# Altium footprint library sanziqi.PcbLib: 62 footprints (part 3 of 4)
Each footprint in its own frame and in the unit in brackets; x right, y up, seen from the top. Pads: shape width x height; smd on the part's side, far side on the other; paste and mask are expansions set on the pad; w line width, h text height; cw(c..) or ccw(c..) is an arc to the next point about the centre after c.
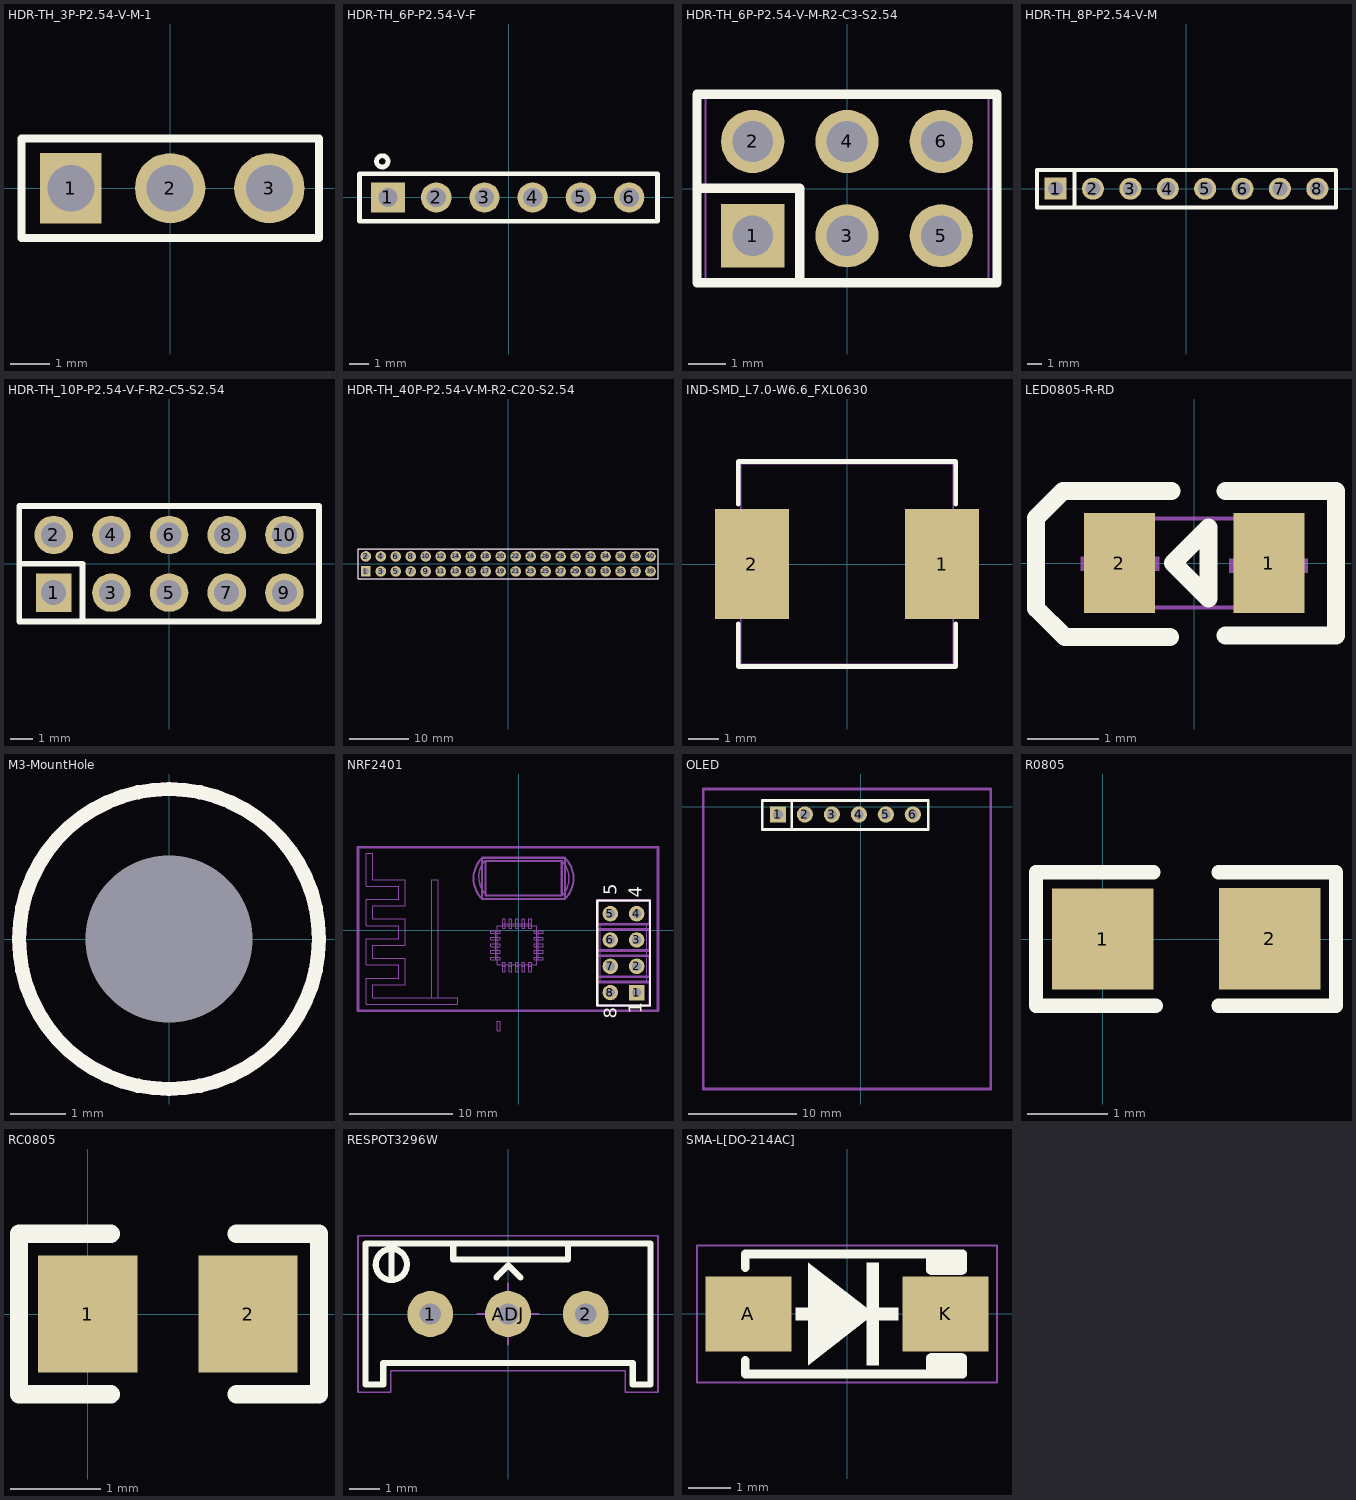
[diagram p2: the footprints below, top view; thin cyan lines are the x and y axes]

## HDR-TH_3P-P2.54-V-M-1 [mm]
pads (3):
  rect 1.575x1.8 hole 1.2: 1(-2.54,0)
  round 1.8 hole 1.2: 2(0,0) 3(2.54,0)
Top Overlay:
  lines w0.203: -3.81,-1.27 3.81,-1.27 3.81,1.27 -1.905,1.27 -3.81,1.27 -3.81,-1.27
Mechanical 15:
  region: -2.86,0.32 -2.22,0.32 -2.22,-0.32 -2.86,-0.32
  region: -0.32,0.32 0.32,0.32 0.32,-0.32 -0.32,-0.32
  region: 2.22,0.32 2.86,0.32 2.86,-0.32 2.22,-0.32
  region: -3.75,-1.25 -3.75,-1.225 -3.785,-1.19 -3.835,-1.19 -3.87,-1.225 -3.87,-1.25 -3.87,-1.275 -3.835,-1.31 -3.785,-1.31 -3.75,-1.275 -3.75,-1.25
  lines w0.051: -3.81,-1.25 3.81,-1.25 3.81,1.25 -3.81,1.25 -3.81,-1.25

## HDR-TH_6P-P2.54-V-F [mm]
pads (6):
  rect 1.8x1.6 hole 1.02: 1(-6.35,0)
  round 1.6 hole 1.02: 2(-3.81,0) 3(-1.27,0) 4(1.27,0) 5(3.81,0) 6(6.35,0)
Top Overlay:
  circle w0.254: c-6.65,1.9 r0.3
  lines w0.254: -7.85,0.9 -7.85,1.25 7.85,1.25 7.85,-1.25 -7.85,-1.25 -7.85,0.95
Mechanical 15:
  region: 6.03,0.15 6.67,0.15 6.67,-0.15 6.03,-0.15
  region: 3.49,0.15 4.13,0.15 4.13,-0.15 3.49,-0.15
  region: 0.95,0.15 1.59,0.15 1.59,-0.15 0.95,-0.15
  region: -1.59,0.15 -0.95,0.15 -0.95,-0.15 -1.59,-0.15
  region: -4.13,0.15 -3.49,0.15 -3.49,-0.15 -4.13,-0.15
  region: -6.67,0.15 -6.03,0.15 -6.03,-0.15 -6.67,-0.15
  region: -7.81,-1.25 -7.81,-1.225 -7.845,-1.19 -7.895,-1.19 -7.93,-1.225 -7.93,-1.25 -7.93,-1.275 -7.895,-1.31 -7.845,-1.31 -7.81,-1.275 -7.81,-1.25
  lines w0.051: -7.87,-1.25 7.87,-1.25 7.87,1.25 -7.87,1.25 -7.87,-1.25

## HDR-TH_6P-P2.54-V-M-R2-C3-S2.54 [mm]
pads (6):
  rect 1.7x1.7 hole 1.1: 1(-2.54,-1.27)
  round 1.7 hole 1.1: 2(-2.54,1.27) 3(0,-1.27) 4(0,1.27) 5(2.54,-1.27) 6(2.54,1.27)
Top Overlay:
  lines w0.254: -4.04,0.007 -1.27,0.007 -1.27,-2.54 ; -4.04,-2.54 -4.04,2.54 4.04,2.54 4.04,-2.54 -4.04,-2.54
Mechanical 15:
  region: -2.86,-0.95 -2.22,-0.95 -2.22,-1.59 -2.86,-1.59
  region: -2.86,1.59 -2.22,1.59 -2.22,0.95 -2.86,0.95
  region: -0.32,-0.95 0.32,-0.95 0.32,-1.59 -0.32,-1.59
  region: -0.32,1.59 0.32,1.59 0.32,0.95 -0.32,0.95
  region: 2.22,-0.95 2.86,-0.95 2.86,-1.59 2.22,-1.59
  region: 2.22,1.59 2.86,1.59 2.86,0.95 2.22,0.95
  region: -3.75,-2.5 -3.75,-2.475 -3.785,-2.44 -3.835,-2.44 -3.87,-2.475 -3.87,-2.5 -3.87,-2.525 -3.835,-2.56 -3.785,-2.56 -3.75,-2.525 -3.75,-2.5
  lines w0.051: -3.81,-2.5 3.81,-2.5 3.81,2.5 -3.81,2.5 -3.81,-2.5

## HDR-TH_8P-P2.54-V-M [mm]
pads (8):
  rect 1.5x1.5 hole 1: 1(-8.89,0)
  round 1.5 hole 1: 2(-6.35,0) 3(-3.81,0) 4(-1.27,0) 5(1.27,0) 6(3.81,0) 7(6.35,0) 8(8.89,0)
Top Overlay:
  lines w0.254: -7.596,-1.27 -7.596,1.27 ; -10.16,-1.27 -10.16,1.27 10.16,1.27 10.16,-1.27 -10.16,-1.27
Mechanical 15:
  region: 8.57,0.32 9.21,0.32 9.21,-0.32 8.57,-0.32
  region: 6.03,0.32 6.67,0.32 6.67,-0.32 6.03,-0.32
  region: 3.49,0.32 4.13,0.32 4.13,-0.32 3.49,-0.32
  region: 0.95,0.32 1.59,0.32 1.59,-0.32 0.95,-0.32
  region: -1.59,0.32 -0.95,0.32 -0.95,-0.32 -1.59,-0.32
  region: -4.13,0.32 -3.49,0.32 -3.49,-0.32 -4.13,-0.32
  region: -6.67,0.32 -6.03,0.32 -6.03,-0.32 -6.67,-0.32
  region: -9.21,0.32 -8.57,0.32 -8.57,-0.32 -9.21,-0.32
  region: -10.1,-1.25 -10.1,-1.225 -10.135,-1.19 -10.185,-1.19 -10.22,-1.225 -10.22,-1.25 -10.22,-1.275 -10.185,-1.31 -10.135,-1.31 -10.1,-1.275 -10.1,-1.25
  lines w0.051: -10.16,-1.25 10.16,-1.25 10.16,1.25 -10.16,1.25 -10.16,-1.25

## HDR-TH_10P-P2.54-V-F-R2-C5-S2.54 [mm]
pads (10):
  rect 1.575x1.7 hole 1.1 paste+0 mask+0.051: 1(-5.08,-1.27)
  round 1.7 hole 1.1 paste+0 mask+0.051: 2(-5.08,1.27) 3(-2.54,-1.27) 4(-2.54,1.27) 5(0,-1.27) 6(0,1.27) 7(2.54,-1.27) 8(2.54,1.27) 9(5.08,-1.27) 10(5.08,1.27)
Top Overlay:
  lines w0.254: -6.604,-2.54 6.604,-2.54 6.604,2.54 -6.604,2.54 -6.604,-2.54 ; -6.604,-2.54 -3.81,-2.54 -3.81,0 -6.604,0 -6.604,-2.54
Mechanical 15:
  region: -6.49,-2.5 -6.49,-2.475 -6.525,-2.44 -6.575,-2.44 -6.61,-2.475 -6.61,-2.5 -6.61,-2.525 -6.575,-2.56 -6.525,-2.56 -6.49,-2.525 -6.49,-2.5
  region: -5.4,-1.47 -5.4,-1.07 -4.76,-1.07 -4.76,-1.47
  region: -5.4,1.47 -4.76,1.47 -4.76,1.07 -5.4,1.07
  region: -2.86,-1.07 -2.22,-1.07 -2.22,-1.47 -2.86,-1.47
  region: -2.86,1.47 -2.22,1.47 -2.22,1.07 -2.86,1.07
  region: -0.32,-1.07 0.32,-1.07 0.32,-1.47 -0.32,-1.47
  region: -0.32,1.47 0.32,1.47 0.32,1.07 -0.32,1.07
  region: 2.22,-1.07 2.86,-1.07 2.86,-1.47 2.22,-1.47
  region: 2.22,1.47 2.86,1.47 2.86,1.07 2.22,1.07
  region: 4.76,-1.07 5.4,-1.07 5.4,-1.47 4.76,-1.47
  region: 4.76,1.47 5.4,1.47 5.4,1.07 4.76,1.07
  lines w0.051: -6.55,-2.5 -6.55,2.5 6.55,2.5 6.55,-2.5 -6.55,-2.5

## HDR-TH_40P-P2.54-V-M-R2-C20-S2.54 [mm]
pads (40):
  rect 1.575x1.8 hole 1.1: 1(-24.13,-1.27)
  round 1.8 hole 1.1: 2(-24.13,1.27) 3(-21.59,-1.27) 4(-21.59,1.27) 5(-19.05,-1.27) 6(-19.05,1.27) 7(-16.51,-1.27) 8(-16.51,1.27) 9(-13.97,-1.27) 10(-13.97,1.27) 11(-11.43,-1.27) 12(-11.43,1.27) 13(-8.89,-1.27) 14(-8.89,1.27) 15(-6.35,-1.27) 16(-6.35,1.27) 17(-3.81,-1.27) 18(-3.81,1.27) 19(-1.27,-1.27) 20(-1.27,1.27) 21(1.27,-1.27) 22(1.27,1.27) 23(3.81,-1.27) 24(3.81,1.27) 25(6.35,-1.27) 26(6.35,1.27) 27(8.89,-1.27) 28(8.89,1.27) 29(11.43,-1.27) 30(11.43,1.27) 31(13.97,-1.27) 32(13.97,1.27) 33(16.51,-1.27) 34(16.51,1.27) 35(19.05,-1.27) 36(19.05,1.27) 37(21.59,-1.27) 38(21.59,1.27) 39(24.13,-1.27) 40(24.13,1.27)
Top Overlay:
  lines w0.203: -25.4,-2.54 -25.4,2.54 25.4,2.54 25.4,-2.54 -25.4,-2.54
Mechanical 15:
  drawing of 45 lines, arcs and shapes, not listed

## IND-SMD_L7.0-W6.6_FXL0630 [mm]
pads (2):
  rect 2.424x3.62 smd: 1(3.128,0) 2(-3.128,0)
Top Overlay:
  lines w0.152: -3.576,-1.962 -3.576,-3.376 3.576,-3.376 3.576,-1.962 ; -3.576,1.962 -3.576,3.376 3.576,3.376 3.576,1.962
Mechanical 15:
  region: 3.56,3.3 3.56,3.325 3.525,3.359 3.475,3.359 3.44,3.325 3.44,3.3 3.44,3.275 3.475,3.241 3.525,3.241 3.56,3.275 3.56,3.3
  region: -3.5,-1.6 -3.5,1.6 -2,1.6 -2,-1.6
  region: 3.5,-1.6 3.5,1.6 2,1.6 2,-1.6
  lines w0.051: -3.5,-3.3 -3.5,3.3 3.5,3.3 3.5,-3.3 -3.5,-3.3

## LED0805-R-RD [mm]
pads (2):
  rect 1x1.4 smd: 1(1.05,0) 2(-1.05,0)
Top Overlay:
  lines w0.254: -0.344,-1.043 -1.817,-1.043 -2.224,-0.636 -2.224,0.634 -1.843,1.015 -0.319,1.015 ; 0.443,-1.017 1.993,-1.017 1.993,1.015 0.443,1.015 ; -0.3,0 -0.2,0.1 0.2,0.5 0.2,-0.5 -0.2,-0.1 -0.3,0
Mechanical 6:
  region: 0.941,-0.556 0.941,0.544 1.141,0.544 1.141,-0.556
  region: 0.494,0.06 1.594,0.06 1.594,-0.14 0.494,-0.14
  region: -0.494,-0.109 -1.594,-0.109 -1.594,0.091 -0.494,0.091
Mechanical 15:
  region: 1.06,0.625 1.059,0.65 1.024,0.684 0.976,0.684 0.941,0.65 0.94,0.625 0.941,0.601 0.976,0.566 1.024,0.566 1.059,0.601 1.06,0.625
  region: 1,-0.625 0.6,-0.625 0.6,0.625 1,0.625
  region: -0.6,-0.625 -1,-0.625 -1,0.625 -0.6,0.625
  lines w0.051: -1,-0.625 -1,0.625 1,0.625 1,-0.625 -1,-0.625

## M3-MountHole [mm]
height 2
pads (1):
  rect 0x0 hole 3 unplated: 1(0,0)
Top Overlay:
  circle w0.254: c0,0 r2.7
Bottom Overlay:
  circle w0.254: c0,0 r2.7
Keep-Out Layer:
  circle w0.254: c0,0 r2.7

## NRF2401 [mm]
pads (8):
  rect 1.5x1.5 hole 0.9: 1(11.379,-6.02)
  round 1.5 hole 0.9: 2(11.379,-3.48) 3(11.379,-0.94) 4(11.379,1.6) 5(8.839,1.6) 6(8.839,-0.94) 7(8.839,-3.48) 8(8.839,-6.02)
Top Overlay:
  lines w0.2: 7.569,-7.29 12.649,-7.29 12.649,2.87 7.569,2.87 7.569,-7.29
  text "8" at 9.474,-8.56 h1.27
  text "4" at 11.887,3.124 h1.27
  text "1" at 11.887,-8.052 h1.27
  text "5" at 9.474,3.378 h1.27
Mechanical 1:
  drawing of 171 lines, arcs and shapes, not listed
3D body: height 3.01, standoff 3, extent -8.433,-6.528 -7.798,4.902
3D body: height 3.01, standoff 3, extent -14.783,-7.163 -5.893,7.442
3D body: height 3.25, standoff 3, extent -2.238,-0.305 -1.829,-0.051
3D body: height 3.25, standoff 3, extent -2.238,-0.94 -1.829,-0.686
3D body: height 3.25, standoff 3, extent -2.238,-1.575 -1.829,-1.321
3D body: height 3.25, standoff 3, extent -2.238,-2.21 -1.829,-1.956
3D body: height 3.25, standoff 3, extent -2.248,-2.845 -1.829,-2.591
3D body: height 3.25, standoff 3, extent -1.575,-3.48 -1.321,-3.099
3D body: height 3.25, standoff 3, extent -0.94,-3.498 -0.686,-3.099
3D body: height 3.25, standoff 3, extent -0.305,-3.498 -0.051,-3.099
3D body: height 3.25, standoff 3, extent 0.33,-3.498 0.584,-3.099
3D body: height 3.25, standoff 3, extent 0.965,-3.498 1.219,-3.099
3D body: height 3.25, standoff 3, extent 1.473,-2.845 1.882,-2.591
3D body: height 3.25, standoff 3, extent 1.473,-2.21 1.882,-1.956
3D body: height 3.25, standoff 3, extent 1.473,-1.588 1.882,-1.321
3D body: height 3.25, standoff 3, extent 1.473,-0.94 1.882,-0.686
3D body: height 3.25, standoff 3, extent 1.473,-0.305 1.892,-0.051
3D body: height 3.25, standoff 3, extent 0.965,0.203 1.219,0.612
3D body: height 3.25, standoff 3, extent 0.33,0.203 0.584,0.612
3D body: height 3.25, standoff 3, extent -0.305,0.203 -0.051,0.612
3D body: height 3.25, standoff 3, extent -0.94,0.203 -0.686,0.612
3D body: height 3.25, standoff 3, extent -1.575,0.203 -1.321,0.612
3D body: height 3.1, standoff 3, extent -2.718,-2.845 -2.248,-2.591
3D body: height 3.1, standoff 3, extent -2.718,-2.21 -2.248,-1.956
3D body: height 3.1, standoff 3, extent -2.718,-1.575 -2.238,-1.321
3D body: height 3.1, standoff 3, extent -2.718,-0.94 -2.248,-0.686
3D body: height 3.1, standoff 3, extent -2.718,-0.318 -2.238,-0.051
3D body: height 3.1, standoff 3, extent -1.575,0.612 -1.321,1.092
3D body: height 3.1, standoff 3, extent -0.94,0.612 -0.686,1.092
3D body: height 3.1, standoff 3, extent -0.305,0.612 -0.051,1.092
3D body: height 3.1, standoff 3, extent 0.33,0.612 0.584,1.092
3D body: height 3.1, standoff 3, extent 0.965,0.612 1.219,1.092
3D body: height 3.1, standoff 3, extent 1.882,-0.305 2.362,-0.051
3D body: height 3.1, standoff 3, extent 1.882,-0.94 2.362,-0.686
3D body: height 3.1, standoff 3, extent 1.882,-1.575 2.362,-1.321
3D body: height 3.1, standoff 3, extent 1.882,-2.21 2.362,-1.956
3D body: height 3.1, standoff 3, extent 1.882,-2.845 2.362,-2.578
3D body: height 3.1, standoff 3, extent 0.965,-3.988 1.219,-3.498
3D body: height 3.1, standoff 3, extent 0.33,-3.988 0.584,-3.498
3D body: height 3.1, standoff 3, extent -0.305,-3.983 -0.051,-3.493
3D body: height 3.1, standoff 3, extent -0.94,-3.988 -0.686,-3.498
3D body: height 3.1, standoff 3, extent -1.575,-3.988 -1.321,-3.48
3D body: height 3.5, standoff 3, extent -2.083,-3.353 1.727,0.457
3D body: height 5, standoff 3.5, extent -3.226,3.378 4.14,6.68
3D body: height 5, standoff 3, extent 1.291,3.44 4.717,6.873
3D body: height 5, standoff 3, extent -4.043,3.313 -0.617,6.746
3D body: height 3.5, standoff 3, extent 1.359,2.917 5.542,7.108
3D body: height 3.5, standoff 3, extent -4.641,2.917 -0.458,7.108
3D body: height 3.5, standoff 3, extent -3.558,3.012 4.442,7.012
3D body: height 4, standoff 0, extent 11.032,1.251 11.729,1.95
3D body: height 4, standoff 0, extent 8.492,1.251 9.189,1.95
3D body: height 4, standoff 0, extent 8.492,-1.289 9.189,-0.59
3D body: height 4, standoff 0, extent 11.032,-1.289 11.729,-0.59
3D body: height 4, standoff 0, extent 11.032,-3.829 11.729,-3.13
3D body: height 4, standoff 0, extent 8.492,-3.829 9.189,-3.13
3D body: height 4, standoff 0, extent 8.492,-6.369 9.189,-5.67
3D body: height 4, standoff 0, extent 11.032,-6.369 11.729,-5.67
3D body: height 4, standoff 0, extent 11.032,-6.369 11.729,-5.67
3D body: height 4, standoff 0, extent 8.492,-6.369 9.189,-5.67
3D body: height 4, standoff 0, extent 11.032,-3.829 11.729,-3.13
3D body: height 4, standoff 0, extent 8.492,-3.829 9.189,-3.13
3D body: height 4, standoff 0, extent 11.032,-1.289 11.729,-0.59
3D body: height 4, standoff 0, extent 8.492,-1.289 9.189,-0.59
3D body: height 4, standoff 0, extent 11.032,1.251 11.729,1.95
3D body: height 4, standoff 0, extent 8.492,1.251 9.189,1.95
3D body: height 3, standoff 2, extent -15.558,-7.788 13.442,8.012
3D body: height 2, standoff 0, extent 7.569,-7.29 12.649,-5.004
3D body: height 2, standoff 0, extent 7.842,-5.004 12.342,-4.496
3D body: height 2, standoff 0, extent 7.569,-4.496 12.649,-2.464
3D body: height 2, standoff 0, extent 7.842,-2.488 12.342,-1.956
3D body: height 2, standoff 0, extent 7.569,-1.956 12.649,0.076
3D body: height 2, standoff 0, extent 7.842,0.076 12.342,0.584
3D body: height 2, standoff 0, extent 7.569,0.584 12.649,2.87

## OLED [mm]
pads (6):
  rect 1.5x1.5 hole 0.9: 1(-7.671,-0.711)
  round 1.5 hole 0.9: 2(-5.171,-0.711) 3(-2.671,-0.711) 4(-0.171,-0.711) 5(2.329,-0.711) 6(4.829,-0.711)
Top Overlay:
  lines w0.254: -6.401,-2.057 -6.401,0.533 ; -9.119,-2.108 6.274,-2.108 6.274,0.584 -9.119,0.584 -9.119,-2.108
Mechanical 1:
  lines w0.254: -14.605,-26.162 -14.605,1.651 12.065,1.651 12.065,-26.162 -14.605,-26.162
3D body "User Library-128x64I2COLEDDisplayAdafruit.STEP": height 10.47, standoff -0.37, extent -14.63,-26.198 12.07,1.662
3D body "User Library-RM254_4pin.STEP": height 6.02, standoff -3.1, extent -6.655,-2.108 3.505,0.432

## PCBComponent_1 [mm]

## R0805 [mm]
pads (2):
  rect 1.27x1.27 smd: 1(0,0) 2(2.09,0.005)
Top Overlay:
  lines w0.18: -0.838,0.813 -0.838,-0.838 0.66,-0.838 ; -0.838,0.838 0.635,0.838 ; 1.448,-0.838 2.921,-0.838 2.921,0.838 1.448,0.838
3D body "R0805.STEP": height 0.55, standoff 0, extent 0.036,-0.62 2.036,0.64

## RC0805 [mm]
pads (2):
  rect 1.1x1.3 smd: 1(0,0) 2(1.778,0)
Top Overlay:
  lines w0.203: 0.254,-0.889 -0.762,-0.889 -0.762,0.889 0.254,0.889 ; 1.651,-0.889 2.515,-0.889 ; 1.651,0.889 2.565,0.889 2.565,-0.889

## RESPOT3296W [mm]
height 2
pads (3):
  round 1.5 hole 0.7: 1(-2.54,0) 2(2.54,0) ADJ(0,0)
Top Overlay:
  lines w0.2: -3.8,1.125 -3.8,2.125 ; -3.302,1.651 ccw(c-3.81,1.618) -3.301,1.608 ; -1.79,2.286 -1.79,1.778 1.96,1.778 1.96,2.286 ; -0.381,1.194 0.013,1.587 0.406,1.194 ; -4.65,-2.3 -4.65,2.3 4.65,2.3 4.65,-2.3 4.075,-2.3 4.075,-1.602 -4.075,-1.602 -4.075,-2.3 -4.65,-2.3
Top Component Center:
  circle w0.05: c0,0 r0.5
  lines w0.05: -1,0 1,0 ; 0,-1 0,1
Top Component Outline:
  lines w0.05: -4.9,-2.55 -4.9,2.55 4.9,2.55 4.9,-2.55 3.825,-2.55 3.825,-1.85 2.8,-1.85 -3.16,-1.85 -3.825,-1.85 -3.825,-2.55 -4.9,-2.55
Top Designator:
  text ".Designator" at -2.342,-0.326 h1
3D body "3296.STEP": height 3.1, standoff -11.9, extent -4.75,-2.4 4.75,2.4

## SMA-L[DO-214AC] [mm]
height 2
pads (2):
  rect 2x1.75 smd: A(-2.3,0) K(2.3,0)
Top Overlay:
  rectangle: 1.941,-1.4 2.7,-0.914
  rectangle: 1.941,0.914 2.7,1.395
  rectangle: 0.451,-1.2 0.751,1.2
  rectangle: -1.201,-0.148 1.199,0.152
  region: -0.902,1.2 -0.902,-1.2 0.635,0
  lines w0.2: -2.375,-1.075 -2.375,-1.4 2.7,-1.4 2.7,-1.016 ; -2.375,1.075 -2.375,1.4 2.7,1.4 2.7,1.016 ; 1.941,-1.395 1.941,-1.016 ; 1.941,1.016 1.941,1.395
Top Component Center:
  circle w0.05: c0,0 r0.225
  lines w0.05: -0.45,0 0.45,0 ; 0,-0.45 0,0.45
Top Component Outline:
  lines w0.05: -3.5,-1.6 3.5,-1.6 3.5,1.6 -3.5,1.6 -3.5,-1.6
Top Designator:
  text ".Designator" at -2.252,-0.226 h1
3D body "SMA(DO-214AC).STEP": height 2.3, standoff 0, extent -2.905,-1.46 2.905,1.46